# Altium footprint library IOBoard2.PcbLib: 17 footprints (part 2 of 2)
Each footprint in its own frame and in the unit in brackets; x right, y up, seen from the top. Pads: shape width x height; smd on the part's side, far side on the other; paste and mask are expansions set on the pad; w line width, h text height; cw(c..) or ccw(c..) is an arc to the next point about the centre after c.
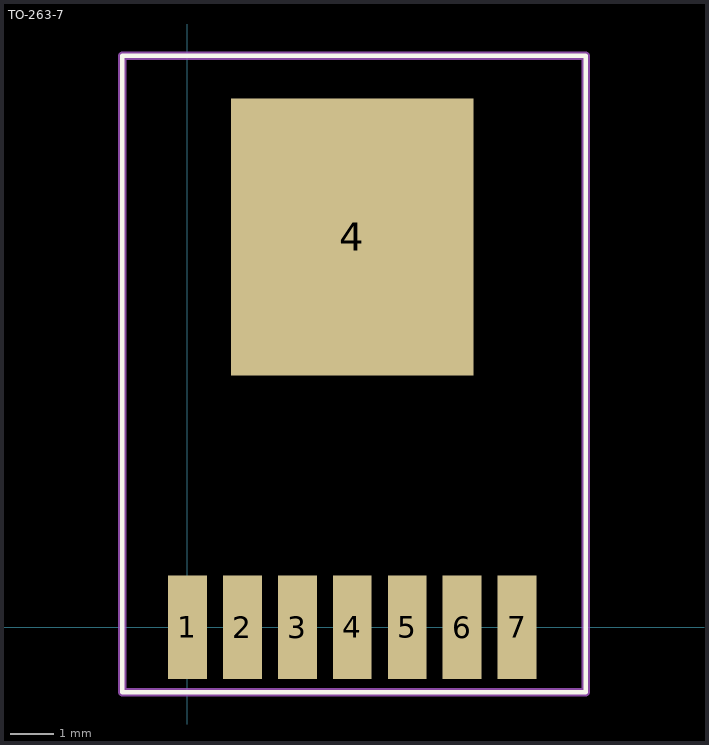
[diagram p1: the footprint, top view; thin cyan lines are the x and y axes]

## TO-263-7 [mm]
pads (8):
  rect 0.9x2.4 smd mask+0.102: 1(0,0) 2(1.27,0) 3(2.54,0) 4(3.81,0) 5(5.08,0) 6(6.35,0) 7(7.62,0)
  rect 5.6x6.4 smd mask+0.102: 4(3.81,9.017)
Top Overlay:
  lines w0.1: -1.5,-1.5 9.2,-1.5 9.2,13.2 -1.5,13.2 -1.5,-1.5
Mechanical 3:
  lines w0.2: -1.5,-1.5 9.2,-1.5 9.2,13.2 -1.5,13.2 -1.5,-1.5
3D body "User Library-TO-PMOD-7-1.STEP": height 4.57, standoff 0, extent -1.27,-0.792 8.89,12.984